# EAGLE library part FTDI_CP2104 (library Scott-ICs)
CP2104 - USB to UART Bridge VDD Output: 3.45V
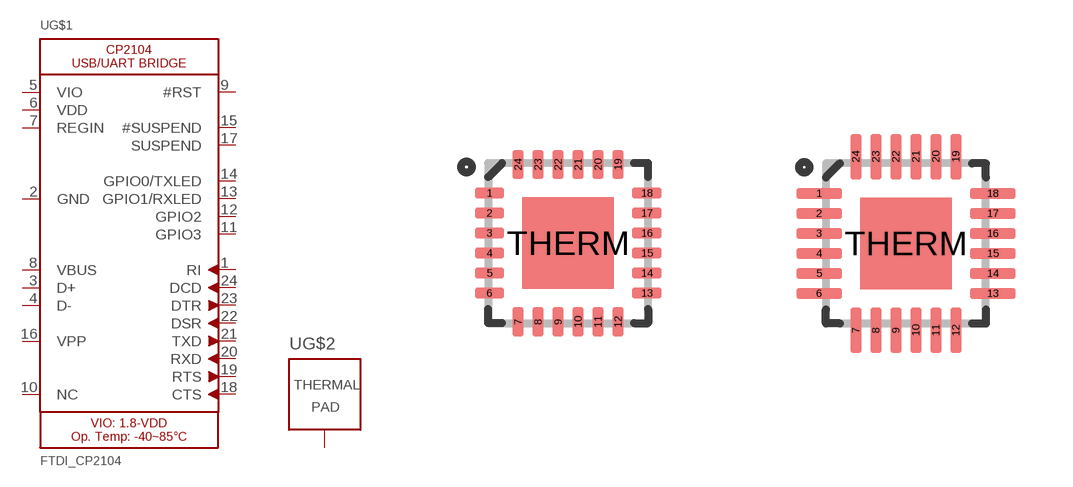
[diagram p7: symbol with the pads of QFN24_4MM_SMSC; footprints QFN24_4MM_SMSC, QFN24_4MM_SMSC_LONG]

Designator prefix U; gates G$1=CP2104 G$2=THERMAL-SLUG

## FTDI_CP2104  [QFN24_4MM_SMSC]
1  G$1:RI
2  G$1:GND  in
3  G$1:D+
4  G$1:D-
5  G$1:VIO  in
6  G$1:VDD  in
7  G$1:REGIN  in
8  G$1:VBUS  in
9  G$1:#RST
10  G$1:NC  nc
11  G$1:GPIO3
12  G$1:GPIO2
13  G$1:GPIO1/RXLED
14  G$1:GPIO0/TXLED
15  G$1:#SUSPEND  out
16  G$1:VPP
17  G$1:SUSPEND  out
18  G$1:CTS
19  G$1:RTS
20  G$1:RXD  in
21  G$1:TXD  out
22  G$1:DSR
23  G$1:DTR
24  G$1:DCD
THERM  G$2:TP  pas

## FTDI_CP2104LONG  [QFN24_4MM_SMSC_LONG]
Pads as for QFN24_4MM_SMSC

## Footprint QFN24_4MM_SMSC (pad centres in mm)
smd 0.737 x 0.28: 1 -1.968,1.25; 2 -1.968,0.75; 3 -1.968,0.25; 4 -1.968,-0.25; 5 -1.968,-0.75; 6 -1.968,-1.25; 13 1.968,-1.25; 14 1.968,-0.75; 15 1.968,-0.25; 16 1.968,0.25; 17 1.968,0.75; 18 1.968,1.25
smd 0.28 x 0.737: 7 -1.25,-1.968; 8 -0.75,-1.968; 9 -0.25,-1.968; 10 0.25,-1.968; 11 0.75,-1.968; 12 1.25,-1.968; 19 1.25,1.968; 20 0.75,1.968; 21 0.25,1.968; 22 -0.25,1.968; 23 -0.75,1.968; 24 -1.25,1.968
smd 2.286 x 2.286: THERM 0,0

## Footprint QFN24_4MM_SMSC_LONG (pad centres in mm)
smd 1.143 x 0.28: 1 -2.172,1.25; 2 -2.172,0.75; 3 -2.172,0.25; 4 -2.172,-0.25; 5 -2.172,-0.75; 6 -2.172,-1.25; 13 2.172,-1.25; 14 2.172,-0.75; 15 2.172,-0.25; 16 2.172,0.25; 17 2.172,0.75; 18 2.172,1.25
smd 0.28 x 1.143: 7 -1.25,-2.172; 8 -0.75,-2.172; 9 -0.25,-2.172; 10 0.25,-2.172; 11 0.75,-2.172; 12 1.25,-2.172; 19 1.25,2.172; 20 0.75,2.172; 21 0.25,2.172; 22 -0.25,2.172; 23 -0.75,2.172; 24 -1.25,2.172
smd 2.286 x 2.286: THERM 0,0